# Altium integrated library Capacitors.IntLib: 65 symbols
Pins are listed as number, name and electrical type; pins without a type are passive.

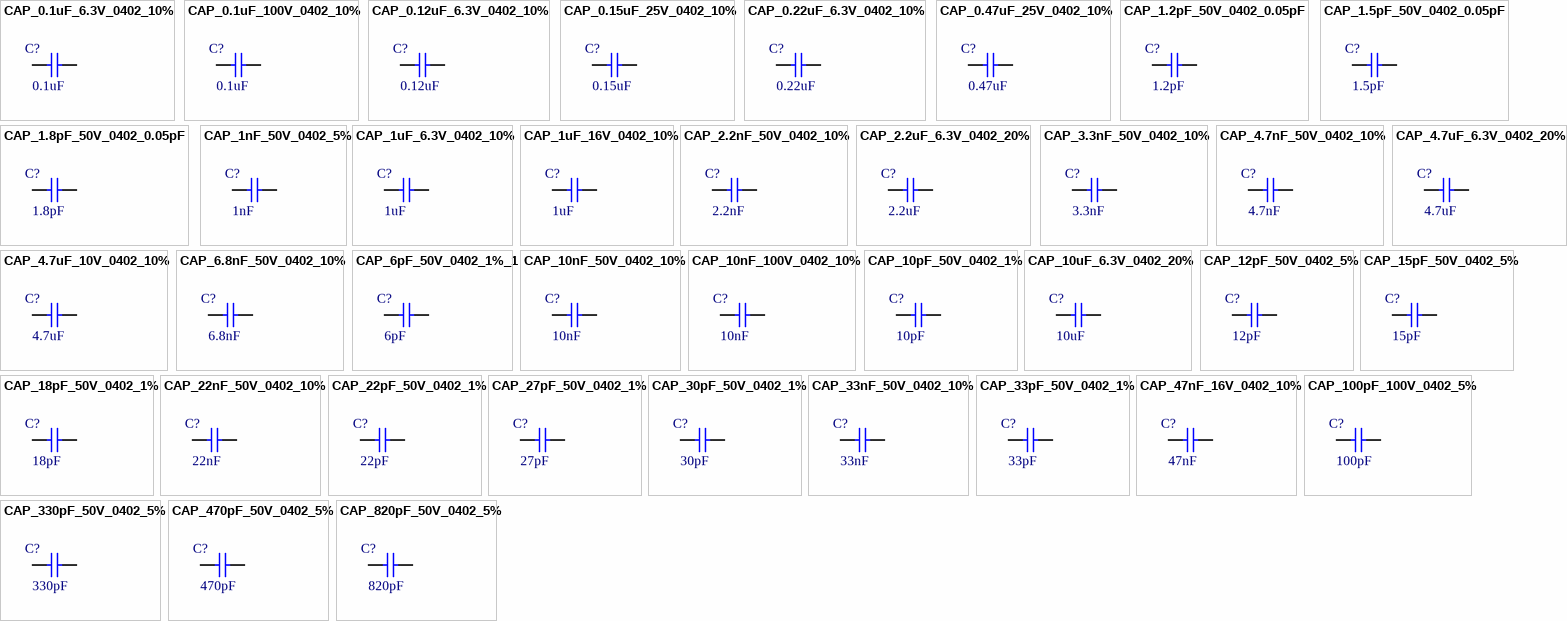
[diagram p0: symbols CAP_0.1uF_6.3V_0402_10% to CAP_820pF_50V_0402_5%]

## CAP_0.1uF_6.3V_0402_10%
designator C?, comment value 0.1uF  (hidden comment: 0.1uF 6.3V 0402)
0.1uF 6.3V 10% 0402 (1005 Metric); PartNumber: GRM155R70J104KA01D; Manufacturer: Murata; Mounting Technology: Surface Mount; PackageReference: 0402; PackageDescription: 0402 (1005 Metric); Voltage: 6.3V; Tolerance: 10%
footprint C0402[1005X55] (Chip Capacitor, Body 1.0x0.5mm)
pins: 1, 2

## CAP_0.1uF_100V_0402_10%
designator C?, comment value 0.1uF  (hidden comment: 0.1uF 100V 0402)
0.1uF 100V 10% 0402 (1005 Metric); PartNumber: GRM155R62A104KE14D; Manufacturer: Murata; Mounting Technology: Surface Mount; PackageReference: 0402; PackageDescription: 0402 (1005 Metric); Voltage: 100V; Tolerance: 10%
footprint C0402[1005X55] (Chip Capacitor, Body 1.0x0.5mm)
pins: 1, 2

## CAP_0.12uF_6.3V_0402_10%
designator C?, comment value 0.12uF  (hidden comment: 0.12uF 6.3V 0402)
0.12uF 6.3V 10% 0402 (1005 Metric); PartNumber: GRM155R60J124KE01D; Manufacturer: Murata; Mounting Technology: Surface Mount; PackageReference: 0402; PackageDescription: 0402 (1005 Metric); Voltage: 6.3V; Tolerance: 10%
footprint C0402[1005X55] (Chip Capacitor, Body 1.0x0.5mm)
pins: 1, 2

## CAP_0.15uF_25V_0402_10%
designator C?, comment value 0.15uF  (hidden comment: 0.15uF 25V 0402)
0.15uF 25V 10% 0402 (1005 Metric); PartNumber: C1005X6S1E154K050BC; Manufacturer: TDK; Mounting Technology: Surface Mount; PackageReference: 0402; PackageDescription: 0402 (1005 Metric); Voltage: 25V; Tolerance: 10%
footprint C0402[1005X55] (Chip Capacitor, Body 1.0x0.5mm)
pins: 1, 2

## CAP_0.22uF_6.3V_0402_10%
designator C?, comment value 0.22uF  (hidden comment: 0.22uF 6.3V 0402)
0.22uF 6.3V 10% 0402 (1005 Metric); PartNumber: JMK105BJ224KV-F; Manufacturer: Taiyo Yuden; Mounting Technology: Surface Mount; PackageReference: 0402; PackageDescription: 0402 (1005 Metric); Voltage: 6.3V; Tolerance: 10%
footprint C0402[1005X55] (Chip Capacitor, Body 1.0x0.5mm)
pins: 1, 2

## CAP_0.47uF_25V_0402_10%
designator C?, comment value 0.47uF  (hidden comment: 0.47uF 25V 0402)
0.47uF 25V 10% 0402 (1005 Metric); PartNumber: GRM155R61E474KE01D; Manufacturer: Murata; Mounting Technology: Surface Mount; PackageReference: 0402; PackageDescription: 0402 (1005 Metric); Voltage: 25V; Tolerance: 10%
footprint C0402[1005X55] (Chip Capacitor, Body 1.0x0.5mm)
pins: 1, 2

## CAP_1.2pF_50V_0402_0.05pF
designator C?, comment value 1.2pF  (hidden comment: 1.2pF 50V 0402)
1.2pF 50V 0.05pF 0402 (1005 Metric); PartNumber: GRM1555C1H1R2WA01D; Manufacturer: Murata; Mounting Technology: Surface Mount; PackageReference: 0402; PackageDescription: 0402 (1005 Metric); Voltage: 50V; Tolerance: 0.05pF
footprint C0402[1005X55] (Chip Capacitor, Body 1.0x0.5mm)
pins: 1, 2

## CAP_1.5pF_50V_0402_0.05pF
designator C?, comment value 1.5pF  (hidden comment: 1.5pF 50V 0402)
1.5pF 50V 0.05pF 0402 (1005 Metric); PartNumber: GRM1555C1H1R5WA01D; Manufacturer: Murata; Mounting Technology: Surface Mount; PackageReference: 0402; PackageDescription: 0402 (1005 Metric); Voltage: 50V; Tolerance: 0.05pF
footprint C0402[1005X55] (Chip Capacitor, Body 1.0x0.5mm)
pins: 1, 2

## CAP_1.8pF_50V_0402_0.05pF
designator C?, comment value 1.8pF  (hidden comment: 1.8pF 50V 0402)
1.8pF 50V 0.05pF 0402 (1005 Metric); PartNumber: GRM1555C1H1R8WA01D; Manufacturer: Murata; Mounting Technology: Surface Mount; PackageReference: 0402; PackageDescription: 0402 (1005 Metric); Voltage: 50V; Tolerance: 0.05pF
footprint C0402[1005X55] (Chip Capacitor, Body 1.0x0.5mm)
pins: 1, 2

## CAP_1nF_50V_0402_5%
designator C?, comment value 1nF  (hidden comment: 1nF 50V 0402)
1nF 50V 5% 0402 (1005 Metric); PartNumber: GRM1555C1H102JA01D; Manufacturer: Murata; Mounting Technology: Surface Mount; PackageReference: 0402; PackageDescription: 0402 (1005 Metric); Voltage: 50V; Tolerance: 5%
footprint C0402[1005X55] (Chip Capacitor, Body 1.0x0.5mm)
pins: 1, 2

## CAP_1uF_6.3V_0402_10%
designator C?, comment value 1uF  (hidden comment: 1uF 6.3V 0402)
1uF 6.3V 10% 0402 (1005 Metric); PartNumber: GRM155R70J105KA12D; Manufacturer: Murata; Mounting Technology: Surface Mount; PackageReference: 0402; PackageDescription: 0402 (1005 Metric); Voltage: 6.3V; Tolerance: 10%
footprint C0402[1005X55] (Chip Capacitor, Body 1.0x0.5mm)
pins: 1, 2

## CAP_1uF_16V_0402_10%
designator C?, comment value 1uF  (hidden comment: 1uF 16V 0402)
1uF 16V 10% 0402 (1005 Metric); PartNumber: GRM155R61C105KE01D; Manufacturer: Murata; Mounting Technology: Surface Mount; PackageReference: 0402; PackageDescription: 0402 (1005 Metric); Voltage: 16V; Tolerance: 10%
footprint C0402[1005X55] (Chip Capacitor, Body 1.0x0.5mm)
pins: 1, 2

## CAP_2.2nF_50V_0402_10%
designator C?, comment value 2.2nF  (hidden comment: 2.2nF 50V 0402)
2.2nF 50V 10% 0402 (1005 Metric); PartNumber: GCM155R71H222KA37D; Manufacturer: Murata; Mounting Technology: Surface Mount; PackageReference: 0402; PackageDescription: 0402 (1005 Metric); Voltage: 50V; Tolerance: 10%
footprint C0402[1005X55] (Chip Capacitor, Body 1.0x0.5mm)
pins: 1, 2

## CAP_2.2uF_6.3V_0402_20%
designator C?, comment value 2.2uF  (hidden comment: 2.2uF 6.3V 0402)
2.2uF 6.3V 20% 0402 (1005 Metric); PartNumber: GRM155R60J225ME15D; Manufacturer: Murata; Mounting Technology: Surface Mount; PackageReference: 0402; PackageDescription: 0402 (1005 Metric); Voltage: 6.3V; Tolerance: 20%
footprint C0402[1005X55] (Chip Capacitor, Body 1.0x0.5mm)
pins: 1, 2

## CAP_3.3nF_50V_0402_10%
designator C?, comment value 3.3nF  (hidden comment: 3.3nF 50V 0402)
3.3nF 50V 10% 0402 (1005 Metric); PartNumber: GRM155R71H332KA01D; Manufacturer: Murata; Mounting Technology: Surface Mount; PackageReference: 0402; PackageDescription: 0402 (1005 Metric); Voltage: 50V; Tolerance: 10%
footprint C0402[1005X55] (Chip Capacitor, Body 1.0x0.5mm)
pins: 1, 2

## CAP_4.7nF_50V_0402_10%
designator C?, comment value 4.7nF  (hidden comment: 4.7nF 50V 0402)
4.7nF 50V 10% 0402 (1005 Metric); PartNumber: GRM155R71H472KA01D; Manufacturer: Murata; Mounting Technology: Surface Mount; PackageReference: 0402; PackageDescription: 0402 (1005 Metric); Voltage: 50V; Tolerance: 10%
footprint C0402[1005X55] (Chip Capacitor, Body 1.0x0.5mm)
pins: 1, 2

## CAP_4.7uF_6.3V_0402_20%
designator C?, comment value 4.7uF  (hidden comment: 4.7uF 6.3V 0402)
4.7uF 6.3V 20% 0402 (1005 Metric); PartNumber: GRM155R60J475ME47D; Manufacturer: Murata; Mounting Technology: Surface Mount; PackageReference: 0402; PackageDescription: 0402 (1005 Metric); Voltage: 6.3V; Tolerance: 20%
footprint C0402[1005X55] (Chip Capacitor, Body 1.0x0.5mm)
pins: 1, 2

## CAP_4.7uF_10V_0402_10%
designator C?, comment value 4.7uF  (hidden comment: 4.7uF 10V 0402)
4.7uF 10V 10% 0402 (1005 Metric); PartNumber: ZRB15XR61A475KE01D; Manufacturer: Murata; Mounting Technology: Surface Mount; PackageReference: 0402; PackageDescription: 0402 (1005 Metric); Voltage: 10V; Tolerance: 10%
footprint C0402[1005X55] (Chip Capacitor, Body 1.0x0.5mm)
pins: 1, 2

## CAP_6.8nF_50V_0402_10%
designator C?, comment value 6.8nF  (hidden comment: 6.8nF 50V 0402)
6.8nF 50V 10% 0402 (1005 Metric); PartNumber: GRM155R71H682KA88J; Manufacturer: Murata; Mounting Technology: Surface Mount; PackageReference: 0402; PackageDescription: 0402 (1005 Metric); Voltage: 50V; Tolerance: 10%
footprint C0402[1005X55] (Chip Capacitor, Body 1.0x0.5mm)
pins: 1, 2

## CAP_6pF_50V_0402_1%_1
designator C?, comment value 6pF  (hidden comment: 6pF 50V 0402)
6pF 50V 1% 0402 (1005 Metric); PartNumber: GCM1555C1H6R0FA6D; Manufacturer: Murata; Mounting Technology: Surface Mount; PackageReference: 0402; PackageDescription: 0402 (1005 Metric); Voltage: 50V; Tolerance: 1%
footprint C0402[1005X55] (Chip Capacitor, Body 1.0x0.5mm)
pins: 1, 2

## CAP_10nF_50V_0402_10%
designator C?, comment value 10nF  (hidden comment: 10nF 50V 0402)
10nF 50V 10% 0402 (1005 Metric); PartNumber: GCM155R71H103KA55D; Manufacturer: Murata; Mounting Technology: Surface Mount; PackageReference: 0402; PackageDescription: 0402 (1005 Metric); Voltage: 50V; Tolerance: 10%
footprint C0402[1005X55] (Chip Capacitor, Body 1.0x0.5mm)
pins: 1, 2

## CAP_10nF_100V_0402_10%
designator C?, comment value 10nF  (hidden comment: 10nF 100V 0402)
10nF 100V 10% 0402 (1005 Metric); PartNumber: C1005X7S2A103K050BB; Manufacturer: TDK; Mounting Technology: Surface Mount; PackageReference: 0402; PackageDescription: 0402 (1005 Metric); Voltage: 100V; Tolerance: 10%
footprint C0402[1005X55] (Chip Capacitor, Body 1.0x0.5mm)
pins: 1, 2

## CAP_10pF_50V_0402_1%
designator C?, comment value 10pF  (hidden comment: 10pF 50V 0402)
10pF 50V 1% 0402 (1005 Metric); PartNumber: GRM1555C1H100FA01D; Manufacturer: Murata; Mounting Technology: Surface Mount; PackageReference: 0402; PackageDescription: 0402 (1005 Metric); Voltage: 50V; Tolerance: 1%
footprint C0402[1005X55] (Chip Capacitor, Body 1.0x0.5mm)
pins: 1, 2

## CAP_10uF_6.3V_0402_20%
designator C?, comment value 10uF  (hidden comment: 10uF 6.3V 0402)
10uF 6.3V 20% 0402 (1005 Metric); PartNumber: GRM155R60J106ME44D; Manufacturer: Murata; Mounting Technology: Surface Mount; PackageReference: 0402; PackageDescription: 0402 (1005 Metric); Voltage: 6.3V; Tolerance: 20%
footprint C0402[1005X55] (Chip Capacitor, Body 1.0x0.5mm)
pins: 1, 2

## CAP_12pF_50V_0402_5%
designator C?, comment value 12pF  (hidden comment: 12pF 50V 0402)
12pF 50V 5% 0402 (1005 Metric); PartNumber: GRM1555C1H120JA01D; Manufacturer: Murata; Mounting Technology: Surface Mount; PackageReference: 0402; PackageDescription: 0402 (1005 Metric); Voltage: 50V; Tolerance: 5%
footprint C0402[1005X55] (Chip Capacitor, Body 1.0x0.5mm)
pins: 1, 2

## CAP_15pF_50V_0402_5%
designator C?, comment value 15pF  (hidden comment: 15pF 50V 0402)
15pF 50V 5% 0402 (1005 Metric); PartNumber: GRM1555C1H150JA01D; Manufacturer: Murata; Mounting Technology: Surface Mount; PackageReference: 0402; PackageDescription: 0402 (1005 Metric); Voltage: 50V; Tolerance: 5%
footprint C0402[1005X55] (Chip Capacitor, Body 1.0x0.5mm)
pins: 1, 2

## CAP_18pF_50V_0402_1%
designator C?, comment value 18pF  (hidden comment: 18pF 50V 0402)
18pF 50V 1% 0402 (1005 Metric); PartNumber: GRM1555C1H180FA01D; Manufacturer: Murata; Mounting Technology: Surface Mount; PackageReference: 0402; PackageDescription: 0402 (1005 Metric); Voltage: 50V; Tolerance: 1%
footprint C0402[1005X55] (Chip Capacitor, Body 1.0x0.5mm)
pins: 1, 2

## CAP_22nF_50V_0402_10%
designator C?, comment value 22nF  (hidden comment: 22nF 50V 0402)
22nF 50V 10% 0402 (1005 Metric); PartNumber: GRM155R71H223KA12J; Manufacturer: Murata; Mounting Technology: Surface Mount; PackageReference: 0402; PackageDescription: 0402 (1005 Metric); Voltage: 50V; Tolerance: 10%
footprint C0402[1005X55] (Chip Capacitor, Body 1.0x0.5mm)
pins: 1, 2

## CAP_22pF_50V_0402_1%
designator C?, comment value 22pF  (hidden comment: 22pF 50V 0402)
22pF 50V 1% 0402 (1005 Metric); PartNumber: GRM1555C1H220FA01D; Manufacturer: Murata; Mounting Technology: Surface Mount; PackageReference: 0402; PackageDescription: 0402 (1005 Metric); Voltage: 50V; Tolerance: 1%
footprint C0402[1005X55] (Chip Capacitor, Body 1.0x0.5mm)
pins: 1, 2

## CAP_27pF_50V_0402_1%
designator C?, comment value 27pF  (hidden comment: 27pF 50V 0402)
27pF 50V 1% 0402 (1005 Metric); PartNumber: GRM1555C1H270FA01D; Manufacturer: Murata; Mounting Technology: Surface Mount; PackageReference: 0402; PackageDescription: 0402 (1005 Metric); Voltage: 50V; Tolerance: 1%
footprint C0402[1005X55] (Chip Capacitor, Body 1.0x0.5mm)
pins: 1, 2

## CAP_30pF_50V_0402_1%
designator C?, comment value 30pF  (hidden comment: 30pF 50V 0402)
30pF 50V 1% 0402 (1005 Metric); PartNumber: GJM1555C1H300FB1D; Manufacturer: Murata; Mounting Technology: Surface Mount; PackageReference: 0402; PackageDescription: 0402 (1005 Metric); Voltage: 50V; Tolerance: 1%
footprint C0402[1005X55] (Chip Capacitor, Body 1.0x0.5mm)
pins: 1, 2

## CAP_33nF_50V_0402_10%
designator C?, comment value 33nF  (hidden comment: 33nF 50V 0402)
33nF 50V 10% 0402 (1005 Metric); PartNumber: GRM155R71H333KE14D; Manufacturer: Murata; Mounting Technology: Surface Mount; PackageReference: 0402; PackageDescription: 0402 (1005 Metric); Voltage: 50V; Tolerance: 10%
footprint C0402[1005X55] (Chip Capacitor, Body 1.0x0.5mm)
pins: 1, 2

## CAP_33pF_50V_0402_1%
designator C?, comment value 33pF  (hidden comment: 33pF 50V 0402)
33pF 50V 1% 0402 (1005 Metric); PartNumber: GCM1555C1H330FA16D; Manufacturer: Murata; Mounting Technology: Surface Mount; PackageReference: 0402; PackageDescription: 0402 (1005 Metric); Voltage: 50V; Tolerance: 1%
footprint C0402[1005X55] (Chip Capacitor, Body 1.0x0.5mm)
pins: 1, 2

## CAP_47nF_16V_0402_10%
designator C?, comment value 47nF  (hidden comment: 47nF 16V 0402)
47nF 16V 10% 0402 (1005 Metric); PartNumber: GCM155R71C473KA37D; Manufacturer: Murata; Mounting Technology: Surface Mount; PackageReference: 0402; PackageDescription: 0402 (1005 Metric); Voltage: 16V; Tolerance: 10%
footprint C0402[1005X55] (Chip Capacitor, Body 1.0x0.5mm)
pins: 1, 2

## CAP_100pF_100V_0402_5%
designator C?, comment value 100pF  (hidden comment: 100pF 100V 0402)
100pF 100V 5% 0402 (1005 Metric); PartNumber: GRM1555C2A101JA01D; Manufacturer: Murata; Mounting Technology: Surface Mount; PackageReference: 0402; PackageDescription: 0402 (1005 Metric); Voltage: 100V; Tolerance: 5%
footprint C0402[1005X55] (Chip Capacitor, Body 1.0x0.5mm)
pins: 1, 2

## CAP_330pF_50V_0402_5%
designator C?, comment value 330pF  (hidden comment: 330pF 50V 0402)
330pF 50V 5% 0402 (1005 Metric); PartNumber: GRM1555C1H331JA01D; Manufacturer: Murata; Mounting Technology: Surface Mount; PackageReference: 0402; PackageDescription: 0402 (1005 Metric); Voltage: 50V; Tolerance: 5%
footprint C0402[1005X55] (Chip Capacitor, Body 1.0x0.5mm)
pins: 1, 2

## CAP_470pF_50V_0402_5%
designator C?, comment value 470pF  (hidden comment: 470pF 50V 0402)
470pF 50V 5% 0402 (1005 Metric); PartNumber: GCM1555C1H471JA16D; Manufacturer: Murata; Mounting Technology: Surface Mount; PackageReference: 0402; PackageDescription: 0402 (1005 Metric); Voltage: 50V; Tolerance: 5%
footprint C0402[1005X55] (Chip Capacitor, Body 1.0x0.5mm)
pins: 1, 2

## CAP_820pF_50V_0402_5%
designator C?, comment value 820pF  (hidden comment: 820pF 50V 0402)
820pF 50V 5% 0402 (1005 Metric); PartNumber: GRM1555C1H821JA01D; Manufacturer: Murata; Mounting Technology: Surface Mount; PackageReference: 0402; PackageDescription: 0402 (1005 Metric); Voltage: 50V; Tolerance: 5%
footprint C0402[1005X55] (Chip Capacitor, Body 1.0x0.5mm)
pins: 1, 2


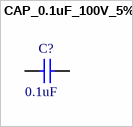
[diagram p1: symbol CAP_0.1uF_100V_5%]

## CAP_0.1uF_100V_5%
designator C?, comment value 0.1uF  (hidden comment: 0.1uF 100V)
0.1uF 100V 5%; PartNumber: MKP2D031001F00JI00; Manufacturer: WIMA; Mounting Technology: Through Hole; Voltage: 100V; Tolerance: 5%
footprint CAP-FILM[5x7.2]
pins: 1, 2


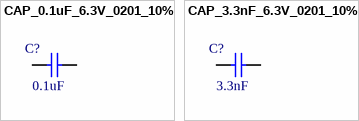
[diagram p2: symbols CAP_0.1uF_6.3V_0201_10% to CAP_3.3nF_6.3V_0201_10%]

## CAP_0.1uF_6.3V_0201_10%
designator C?, comment value 0.1uF  (hidden comment: 0.1uF 6.3V 0201)
0.1uF 6.3V 10% 0201 (0603 Metric); PartNumber: GRT033R60J104KE01D; Manufacturer: Murata; Mounting Technology: Surface Mount; PackageReference: 0201; PackageDescription: 0201 (0603 Metric); Voltage: 6.3V; Tolerance: 10%
footprint C0201[0603X30] (Chip Capacitor, Body 0.6x0.3mm)
pins: 1, 2

## CAP_3.3nF_6.3V_0201_10%
designator C?, comment value 3.3nF  (hidden comment: 3.3nF 6.3V 0201)
3.3nF 6.3V 10% 0201 (0603 Metric); PartNumber: GRM033R70J332KA01D; Manufacturer: Murata; Mounting Technology: Surface Mount; PackageReference: 0201; PackageDescription: 0201 (0603 Metric); Voltage: 6.3V; Tolerance: 10%
footprint C0201[0603X30] (Chip Capacitor, Body 0.6x0.3mm)
pins: 1, 2


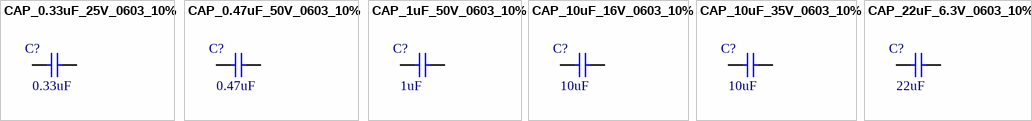
[diagram p3: symbols CAP_0.33uF_25V_0603_10% to CAP_22uF_6.3V_0603_10%]

## CAP_0.33uF_25V_0603_10%
designator C?, comment value 0.33uF  (hidden comment: 0.33uF 25V 0603)
0.33uF 25V 10% 0603 (1608 Metric); PartNumber: GCJ188R91E334KA01D; Manufacturer: Murata; Mounting Technology: Surface Mount; PackageReference: 0603; PackageDescription: 0603 (1608 Metric); Voltage: 25V; Tolerance: 10%
footprint C0603[1608X92] (Chip Capacitor, Body 1.6x0.8mm)
pins: 1, 2

## CAP_0.47uF_50V_0603_10%
designator C?, comment value 0.47uF  (hidden comment: 0.47uF 50V 0603)
0.47uF 50V 10% 0603 (1608 Metric); PartNumber: GRM188R61H474KA12D; Manufacturer: Murata; Mounting Technology: Surface Mount; PackageReference: 0603; PackageDescription: 0603 (1608 Metric); Voltage: 50V; Tolerance: 10%
footprint C0603[1608X92] (Chip Capacitor, Body 1.6x0.8mm)
pins: 1, 2

## CAP_1uF_50V_0603_10%
designator C?, comment value 1uF  (hidden comment: 1uF 50V 0603)
1uF 50V 10% 0603 (1608 Metric); PartNumber: GRM188R61H105KAALD; Manufacturer: Murata; Mounting Technology: Surface Mount; PackageReference: 0603; PackageDescription: 0603 (1608 Metric); Voltage: 50V; Tolerance: 10%
footprint C0603[1608X92] (Chip Capacitor, Body 1.6x0.8mm)
pins: 1, 2

## CAP_10uF_16V_0603_10%
designator C?, comment value 10uF  (hidden comment: 10uF 16V 0603)
10uF 16V 10% 0603 (1608 Metric); PartNumber: GRM188R61C106KAALD; Manufacturer: Murata; Mounting Technology: Surface Mount; PackageReference: 0603; PackageDescription: 0603 (1608 Metric); Voltage: 16V; Tolerance: 10%
footprint C0603[1608X92] (Chip Capacitor, Body 1.6x0.8mm)
pins: 1, 2

## CAP_10uF_35V_0603_10%
designator C?, comment value 10uF  (hidden comment: 10uF 35V 0603)
10uF 35V 10% 0603 (1608 Metric); PartNumber: GRM188R6YA106MA73D; Manufacturer: Murata; Mounting Technology: Surface Mount; PackageReference: 0603; PackageDescription: 0603 (1608 Metric); Voltage: 35V; Tolerance: 10%
footprint C0603[1608X92] (Chip Capacitor, Body 1.6x0.8mm)
pins: 1, 2

## CAP_22uF_6.3V_0603_10%
designator C?, comment value 22uF  (hidden comment: 22uF 6.3V 0603)
22uF 6.3V 10% 0603 (1608 Metric); PartNumber: GRT188R60J226ME13D; Manufacturer: Murata; Mounting Technology: Surface Mount; PackageReference: 0603; PackageDescription: 0603 (1608 Metric); Voltage: 6.3V; Tolerance: 10%
footprint C0603[1608X92] (Chip Capacitor, Body 1.6x0.8mm)
pins: 1, 2


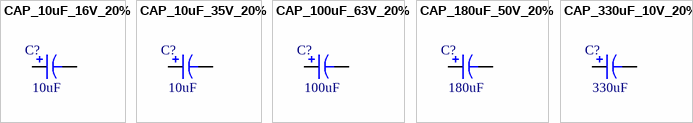
[diagram p4: symbols CAP_10uF_16V_20% to CAP_330uF_10V_20%]

## CAP_10uF_16V_20%
designator C?, comment value 10uF  (hidden comment: 10uF 16V)
10uF 16V 20%; PartNumber: UMT1C100MCD2; Manufacturer: Nichicon; Mounting Technology: Through Hole; Voltage: 16V; Tolerance: 20%
footprint CAP-ELECTROLYTIC[3X5]
pins: 1, 2

## CAP_10uF_35V_20%
designator C?, comment value 10uF  (hidden comment: 10uF 35V)
10uF 35V 20%; PartNumber: USW1V100MDD; Manufacturer: Nichicon; Mounting Technology: Through Hole; Voltage: 35V; Tolerance: 20%
footprint CAP-ELECTROLYTIC[4x7]
pins: 1, 2

## CAP_100uF_63V_20%
designator C?, comment value 100uF  (hidden comment: 100uF 63V)
100uF 63V 20%; PartNumber: PCR1J101MCL1GS; Manufacturer: Nichicon; Mounting Technology: Surface Mount; PackageReference: 1H; PackageDescription: 10x12.7mm; Voltage: 63V; Tolerance: 20%
footprint CAP-ELECTROLYTIC[10.0x12.6]
pins: 1, 2

## CAP_180uF_50V_20%
designator C?, comment value 180uF  (hidden comment: 180uF 50V)
180uF 50V 20%; PartNumber: PCR1H181MCL1GS; Manufacturer: Nichicon; Mounting Technology: Surface Mount; PackageReference: 1H; PackageDescription: 10x12.7mm; Voltage: 50V; Tolerance: 20%
footprint CAP-ELECTROLYTIC[10.0x12.6]
pins: 1, 2

## CAP_330uF_10V_20%
designator C?, comment value 330uF  (hidden comment: 330uF 10V)
330uF 10V 20%; PartNumber: APXA100ARA331MHC0G; Manufacturer: United Chemi-Con; Mounting Technology: Surface Mount; PackageReference: HC0; PackageDescription: 8.3x8.3mm; Voltage: 10V; Tolerance: 20%
footprint CAP-ELECTROLYTIC[8.3x8.3]
pins: 1, 2


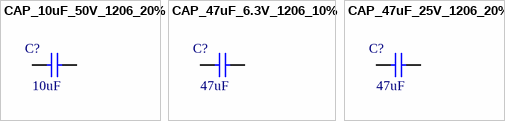
[diagram p5: symbols CAP_10uF_50V_1206_20% to CAP_47uF_25V_1206_20%]

## CAP_10uF_50V_1206_20%
designator C?, comment value 10uF  (hidden comment: 10uF 50V 1206)
10uF 50V 20% 1206 (3216 Metric); PartNumber: UMK316BBJ106ML-T; Manufacturer: Taiyo Yuden; Mounting Technology: Surface Mount; PackageReference: 1206; PackageDescription: 1206 (3216 Metric); Voltage: 50V; Tolerance: 20%
footprint C1206[3216X160] (Chip Capacitor, Body 3.2x1.6mm)
pins: 1, 2

## CAP_47uF_6.3V_1206_10%
designator C?, comment value 47uF  (hidden comment: 47uF 6.3V 1206)
47uF 6.3V 10% 1206 (3216 Metric); PartNumber: GRM31CR60J476KE19L; Manufacturer: Murata; Mounting Technology: Surface Mount; PackageReference: 1206; PackageDescription: 1206 (3216 Metric); Voltage: 6.3V; Tolerance: 10%
footprint C1206[3216X160] (Chip Capacitor, Body 3.2x1.6mm)
pins: 1, 2

## CAP_47uF_25V_1206_20%
designator C?, comment value 47uF  (hidden comment: 47uF 25V 1206)
47uF 25V 20% 1206 (3216 Metric); PartNumber: GRM31CR61E476ME44K; Manufacturer: Murata; Mounting Technology: Surface Mount; PackageReference: 1206; PackageDescription: 1206 (3216 Metric); Voltage: 25V; Tolerance: 20%
footprint C1206[3216X160] (Chip Capacitor, Body 3.2x1.6mm)
pins: 1, 2


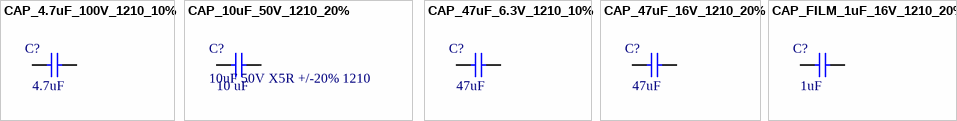
[diagram p6: symbols CAP_4.7uF_100V_1210_10% to CAP_FILM_1uF_16V_1210_20%]

## CAP_4.7uF_100V_1210_10%
designator C?, comment value 4.7uF  (hidden comment: 4.7uF 100V 1210)
4.7uF 100V 10% 1210 (3225 Metric); PartNumber: GRJ32DC72A475KE11L; Manufacturer: Murata; Mounting Technology: Surface Mount; PackageReference: 1210; PackageDescription: 1210 (3225 Metric); Voltage: 100V; Tolerance: 10%
footprint C1210[3225X200] (Chip Capacitor, Body 3.2x2.5mm)
pins: 1, 2

## CAP_10uF_50V_1210_20%
designator C?, comment 10uF 50V X5R +/-20% 1210  value 10 uF
Manufacturer: Taiyo Yuden; PartNumber: UMK325BJ106MM-T; Tolerance: 20%; Voltage: 50V; Mounting Technology: Surface Mount; PackageReference: 1210; PackageDescription: 1210 (3325 Metric)
footprint C1210[3225X150] (Chip Capacitor, Body 3.2x2.5mm)
pins: 1, 2

## CAP_47uF_6.3V_1210_10%
designator C?, comment value 47uF  (hidden comment: 47uF 6.3V 1210)
47uF 6.3V 10% 1210 (3225 Metric); PartNumber: GRM32ER70J476KE20L; Manufacturer: Murata; Mounting Technology: Surface Mount; PackageReference: 1210; PackageDescription: 1210 (3225 Metric); Voltage: 6.3V; Tolerance: 10%
footprint C1210[3225X250] (Chip Capacitor, Body 3.2x2.5mm)
pins: 1, 2

## CAP_47uF_16V_1210_20%
designator C?, comment value 47uF  (hidden comment: 47uF 16V 1210)
47uF 16V 20% 1210 (3225 Metric); PartNumber: GRM32ER61C476ME15L; Manufacturer: Murata; Mounting Technology: Surface Mount; PackageReference: 1210; PackageDescription: 1210 (3225 Metric); Voltage: 16V; Tolerance: 20%
footprint C1210[3225X250] (Chip Capacitor, Body 3.2x2.5mm)
pins: 1, 2

## CAP_FILM_1uF_16V_1210_20%
designator C?, comment value 1uF  (hidden comment: 1uF 16V FILM +/-20% 1210)
Manufacturer: Panasonic; PartNumber: ECP-U1C105MA5; Tolerance: 20%; Voltage: 16V; Mounting Technology: Surface Mount; PackageReference: 1210; PackageDescription: 1210 (3325 Metric)
footprint C1210[3225X150] (Chip Capacitor, Body 3.2x2.5mm)
pins: 1, 2


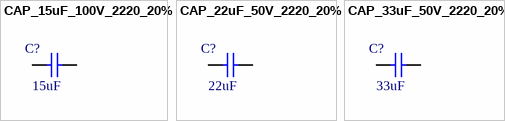
[diagram p7: symbols CAP_15uF_100V_2220_20% to CAP_33uF_50V_2220_20%]

## CAP_15uF_100V_2220_20%
designator C?, comment value 15uF  (hidden comment: 15uF 100V 2220)
15uF 100V 20% 2220 (5750 Metric); PartNumber: C5750X7S2A156M250KB; Manufacturer: TDK; Mounting Technology: Surface Mount; PackageReference: 2220; PackageDescription: 2220 (5750 Metric); Voltage: 100V; Tolerance: 20%
footprint C2220[5750X230] (Chip Capacitor, Body 5.7x5.0mm)
pins: 1, 2

## CAP_22uF_50V_2220_20%
designator C?, comment value 22uF  (hidden comment: 22uF 50V 2220)
22uF 50V 20% 2220 (5750 Metric); PartNumber: KRM55TR71H226MH01K; Manufacturer: Murata; Mounting Technology: Surface Mount; PackageReference: 2220; PackageDescription: 2220 (5750 Metric); Voltage: 50V; Tolerance: 20%
footprint C2220[5750X480] (Chip Capacitor, Body 5.7x5.0mm)
pins: 1, 2

## CAP_33uF_50V_2220_20%
designator C?, comment value 33uF  (hidden comment: 33uF 50V 2220)
33uF 50V 20% 2220 (5750 Metric); PartNumber: KRM55WR71H336MH01K; Manufacturer: Murata; Mounting Technology: Surface Mount; PackageReference: 2220; PackageDescription: 2220 (5750 Metric); Voltage: 50V; Tolerance: 20%
footprint C2220[5750X480] (Chip Capacitor, Body 5.7x5.0mm)
pins: 1, 2


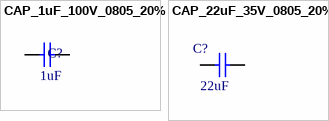
[diagram p8: symbols CAP_1uF_100V_0805_20% to CAP_22uF_35V_0805_20%]

## CAP_1uF_100V_0805_20%
designator C?, comment 1uF
1uF 100V 20% 0805 (2012 metric); Manufacturer: TDK; PartNumber: C2012X7S2A474M125AE; Mounting Technology: Surface Mount; Voltage: 100V; Package Description: 0805 (2012 Metric); Package Reference: 0805; Tolerance: 20%; Value: 1uF
footprint C0805[2012X120] (Chip Capacitor, Body 2.0x1.25mm)
pins: 1, 2

## CAP_22uF_35V_0805_20%
designator C?, comment value 22uF  (hidden comment: 22uF 35V 0805)
22uF 35V 20% 0805 (2012 Metric); PartNumber: C2012X5R1V226M125AC; Manufacturer: TDK; Mounting Technology: Surface Mount; PackageReference: 0805; PackageDescription: 0805 (2012 Metric); Voltage: 35V; Tolerance: 20%
footprint C0805[2012X120] (Chip Capacitor, Body 2.0x1.25mm)
pins: 1, 2